# EAGLE library part M93C46 (library STMicroelectrionics)
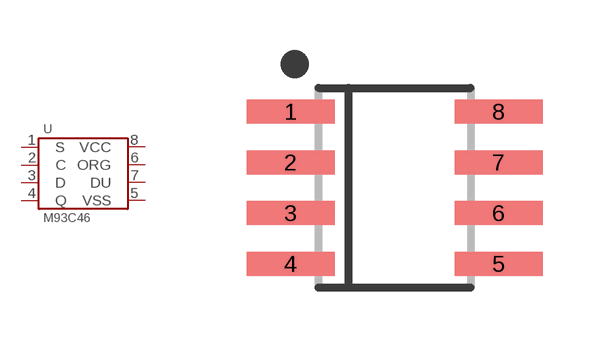
[diagram p8: symbol with the pads of SOIC-8; footprint SOIC-8]

Designator prefix U

## M93C46-WMN6TP  [SOIC-8]
1  S
2  C
3  D
4  Q
5  VSS
6  ORG
7  DU
8  VCC

## Footprint SOIC-8 (pad centres in mm)
smd 2.2 x 0.6: 1 -2.6,1.905; 2 -2.6,0.635; 3 -2.6,-0.635; 4 -2.6,-1.905; 5 2.6,-1.905; 6 2.6,-0.635; 7 2.6,0.635; 8 2.6,1.905